# EAGLE library part AD6C223 (library Traficon)
1 Form C Solid state relay (SPDT)
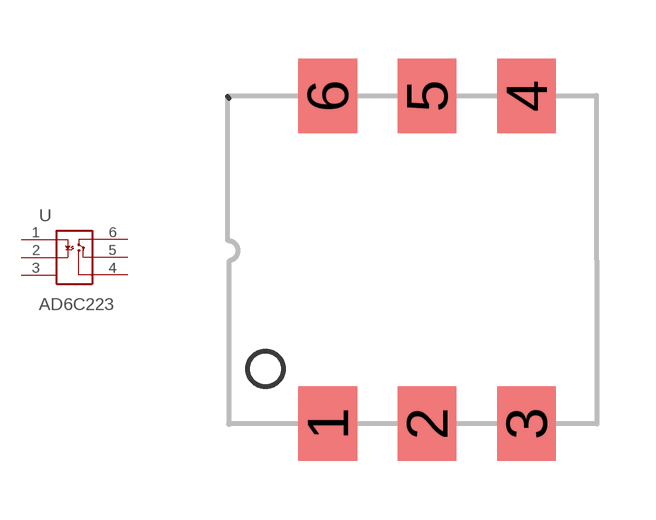
[diagram p29: symbol with the pads of AD6C223; footprint AD6C223]

Designator prefix -

## AD6C223  [AD6C223]
1  1  in
2  2  in
3  3  nc
4  4  pas
5  5  pas
6  6  pas

## Footprint AD6C223 (pad centres in mm)
smd 1.499 x 1.905: 1 2.54,-8.382; 2 5.08,-8.382; 3 7.62,-8.382; 4 7.62,0; 5 5.08,0; 6 2.54,0